# Altium footprint library INDPM135125X500N.PcbLib: 1 footprints
Each footprint in its own frame and in the unit in brackets; x right, y up, seen from the top. Pads: shape width x height; smd on the part's side, far side on the other; paste and mask are expansions set on the pad; w line width, h text height; cw(c..) or ccw(c..) is an arc to the next point about the centre after c.
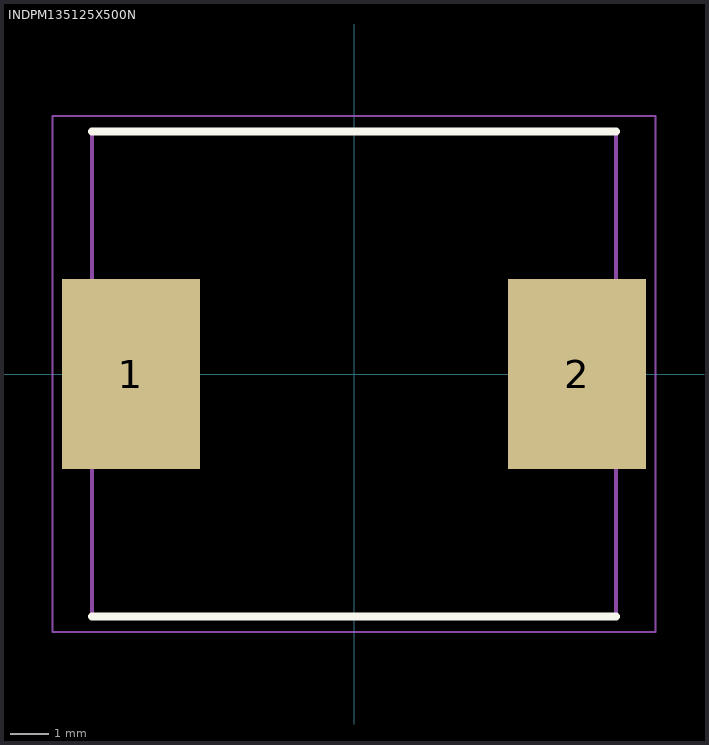
[diagram p0: the footprint, top view; thin cyan lines are the x and y axes]

## INDPM135125X500N [mm]
pads (2):
  rect 3.55x4.9 smd: 1(-5.75,0) 2(5.75,0)
Top Overlay:
  lines w0.2: -6.75,-6.25 6.75,-6.25 ; -6.75,6.25 6.75,6.25
Mechanical 15:
  lines w0.1: -6.75,-6.25 6.75,-6.25 6.75,6.25 -6.75,6.25 -6.75,-6.25
Mechanical 20:
  lines w0.05: -7.775,-6.65 7.775,-6.65 7.775,6.65 -7.775,6.65 -7.775,-6.65